# Altium footprint library DCT.PcbLib: 16 footprints
Each footprint in its own frame and in the unit in brackets; x right, y up, seen from the top. Pads: shape width x height; smd on the part's side, far side on the other; paste and mask are expansions set on the pad; w line width, h text height; cw(c..) or ccw(c..) is an arc to the next point about the centre after c.
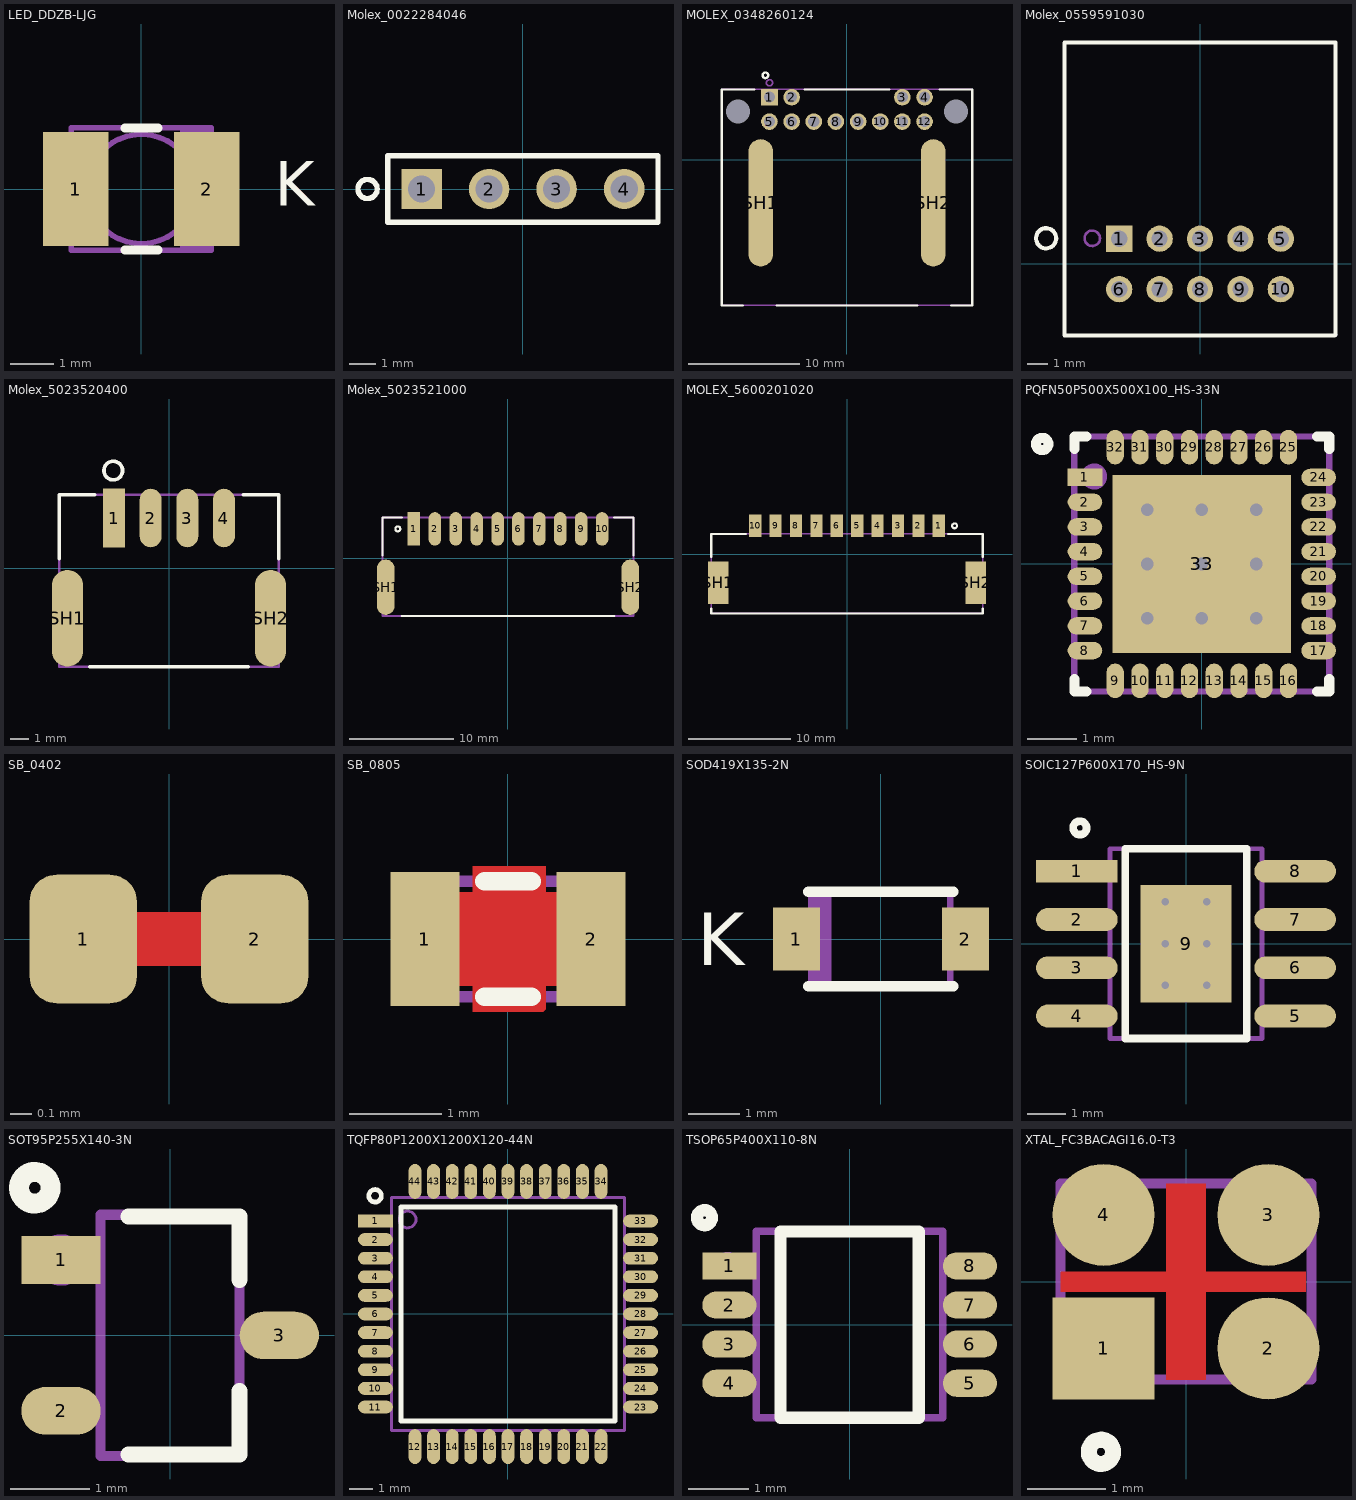
[diagram p0: the footprints below, top view; thin cyan lines are the x and y axes]

## LED_DDZB-LJG [mm]
height 2.05
pads (2):
  rect 1.5x2.6 smd: 1(-1.5,0) 2(1.5,0)
Top Overlay:
  lines w0.203: -0.381,-1.397 0.381,-1.397 ; -0.381,1.397 0.381,1.397
  text "K" at 3.048,-0.381 h1.02
Mechanical 1:
  text "'.Designator'" at 0,0 h1.52
Mechanical 15:
  circle w0.127: c0,0 r1.25
  rectangle: 0.889,-1.4 1.6,1.4
  lines w0.127: -1.6,-1.4 -1.6,1.4 1.6,1.4 1.6,-1.4 -1.6,-1.4
3D body: height 2, standoff 0, extent -1.24,-1.248 1.25,1.248
3D body: height 2.05, standoff 0, extent -1.6,-1.4 0,1.4
3D body: height 2.05, standoff 0, extent 0,-1.4 1.6,1.4

## Molex_0022284046 [mm] "CONN HEADER VERT 4POS 2.54MM"
height 8.38
pads (4):
  rect 1.52x1.52 hole 1.02: 1(-3.81,0)
  round 1.52 hole 1.02: 2(-1.27,0) 3(1.27,0) 4(3.81,0)
Top Overlay:
  circle w0.203: c-5.842,0 r0.359
  lines w0.203: -5.08,-1.245 5.08,-1.245 5.08,1.245 -5.08,1.245 -5.08,-1.245
Mechanical 1:
  text "'.Designator'" at 0,0 h1.52
Mechanical 15:
  circle w0.127: c-4.064,0.254 r0.359
  lines w0.127: -5.08,-1.245 -5.08,1.245 5.08,1.245 5.08,-1.245 -5.08,-1.245
3D body "022284046.stp": height 8.44, standoff -3.12, extent -5.08,-1.244 5.08,1.245

## MOLEX_0348260124 [mm] "CONN HEADER R/A 12POS 2MM"
height 12.17
pads (16):
  rect 1.5x1.5 hole 1: 1(-7,5.647)
  round 1.5 hole 1: 2(-5,5.647) 3(5,5.647) 4(7,5.647) 5(-7,3.447) 6(-5,3.447) 7(-3,3.447) 8(-1,3.447) 9(1,3.447) 10(3,3.447) 11(5,3.447) 12(7,3.447)
  round 0.102 hole 2.15 unplated: MH1(-9.85,4.347) MH2(9.85,4.347)
  oval 2.2x11.5 smd: SH1(-7.79,-3.896) SH2(7.79,-3.896)
Top Overlay:
  circle w0.203: c-7.366,7.62 r0.254
  lines w0.203: -9.398,-13.154 -11.315,-13.154 -11.315,6.346 -11.312,6.35 -8.382,6.35 ; -6.35,-13.154 6.35,-13.154 ; -3.81,6.346 3.81,6.346 ; 8.382,6.35 11.312,6.35 11.315,6.346 11.315,-13.154 9.398,-13.154
Mechanical 1:
  text "'.Designator'" at 0,0 h1.52
Mechanical 15:
  circle w0.127: c-7,6.947 r0.283
  lines w0.127: -11.315,-13.154 -11.315,6.346 11.315,6.346 11.315,-13.154 -11.315,-13.154
3D body "348260124.stp": height 11.84, standoff -4.05, extent -11.315,-13.154 11.315,6.346

## Molex_0559591030 [mm] "CONN HEADER R/A 10POS 2MM"
height 11.7
pads (10):
  rect 1.3x1.3 hole 0.8: 1(-4,1.25)
  round 1.3 hole 0.8: 2(-2,1.25) 3(0,1.25) 4(2,1.25) 5(4,1.25) 6(-4,-1.25) 7(-2,-1.25) 8(0,-1.25) 9(2,-1.25) 10(4,-1.25)
Top Overlay:
  circle w0.203: c-7.62,1.27 r0.5
  lines w0.203: -6.7,-3.528 -6.7,10.95 -6.689,10.961 6.711,10.961 6.711,-3.497 6.669,-3.539 -6.689,-3.539 -6.7,-3.528
Mechanical 1:
  text "'.Designator'" at 0,0 h1.52
Mechanical 15:
  circle w0.127: c-5.334,1.27 r0.381
  lines w0.127: -6.7,-3.539 -6.7,10.95 6.7,10.95 6.7,-3.508 6.731,-3.539 -6.689,-3.539
3D body "559591030.stp": height 11.65, standoff -3.25, extent -6.689,-3.539 6.711,10.961

## Molex_5023520400 [mm] "CONN HEADER SMD R/A 4POS 2MM"
height 6.4
pads (6):
  rect 1.2x3.2 smd: 1(-3,2.74)
  oval 1.2x3.2 smd: 2(-1,2.74) 3(1,2.74) 4(3,2.74)
  oval 1.7x5.3 smd: SH1(-5.55,-2.74) SH2(5.55,-2.74)
Top Overlay:
  circle w0.203: c-3.048,5.334 r0.508
  lines w0.203: -6,0.508 -6,4.014 -4.064,4.014 ; -4.318,-5.386 4.318,-5.386 ; 4.064,4.014 6,4.014 6,0.508
Mechanical 1:
  text "'.Designator'" at 0,0 h1.52
Mechanical 15:
  circle w0.127: c-3,2.74 r0.381
  lines w0.127: -6,-5.386 6,-5.386 6,4.014 -6,4.014 -6,-5.386
3D body "5023520400.stp": height 6.46, standoff 0.06, extent -6,-5.386 6,4.014

## Molex_5023521000 [mm] "CONN HEADER SMD R/A 10POS 2MM"
height 6.4
pads (12):
  rect 1.2x3.2 smd: 1(-9,2.79)
  oval 1.2x3.2 smd: 2(-7,2.79) 3(-5,2.79) 4(-3,2.79) 5(-1,2.79) 6(1,2.79) 7(3,2.79) 8(5,2.79) 9(7,2.79) 10(9,2.79)
  oval 1.7x5.3 smd: SH1(-11.7,-2.79) SH2(11.7,-2.79)
Top Overlay:
  circle w0.203: c-10.541,2.79 r0.239
  lines w0.203: -12,0.254 -12,3.865 -10.16,3.865 ; -10.16,-5.535 10.16,-5.535 ; 10.16,3.865 12,3.865 12,0.254
Mechanical 1:
  text "'.Designator'" at 0,0 h1.52
Mechanical 15:
  circle w0.127: c-9,2.79 r0.491
  lines w0.203: -12,-5.535 12,-5.535 12,3.865 -12,3.865 -12,-5.535
3D body "5023521000.stp": height 6.46, standoff 0.06, extent -12,-5.535 12,3.865

## MOLEX_5600201020 [mm] "CONN HEADER SMD 10POS 2MM"
height 9.3
pads (12):
  rect 1.2x2.2 smd: 1(9,2.79) 2(7,2.79) 3(5,2.79) 4(3,2.79) 5(1,2.79) 6(-1,2.79) 7(-3,2.79) 8(-5,2.79) 9(-7,2.79) 10(-9,2.79)
  rect 2x4.2 smd: SH1(-12.6,-2.79) SH2(12.6,-2.79)
Top Overlay:
  circle w0.203: c10.541,2.79 r0.239
  lines w0.203: -13.3,-5.334 -13.3,-5.79 13.3,-5.79 13.3,-5.334 ; -13.3,-0.254 -13.3,2.01 -9.906,2.01 ; 9.906,2.01 13.3,2.01 13.3,-0.254
Mechanical 1:
  text "'.Designator'" at 0,0 h1.52
Mechanical 15:
  circle w0.127: c9,2.79 r0.491
  lines w0.127: -13.3,-5.79 -13.3,2.01 13.3,2.01 13.3,-5.79 -13.3,-5.79
3D body "5600201020.stp": height 7.9, standoff -0.1, extent -13.3,-5.79 13.3,3.36

## PQFN50P500X500X100_HS-33N [mm] "PQFN, 32-Leads, Body 5.00x5.00mm, Pitch 0.50mm, Thermal Pad 3.60x3.60mm, IPC Medium Density"
height 1
pads (33):
  rect 0.7x0.35 smd mask+0.064: 1(-2.361,1.75)
  oval 0.7x0.35 smd mask+0.064: 2(-2.361,1.25) 3(-2.361,0.75) 4(-2.361,0.25) 5(-2.361,-0.25) 6(-2.361,-0.75) 7(-2.361,-1.25) 8(-2.361,-1.75) 17(2.361,-1.75) 18(2.361,-1.25) 19(2.361,-0.75) 20(2.361,-0.25) 21(2.361,0.25) 22(2.361,0.75) 23(2.361,1.25) 24(2.361,1.75)
  oval 0.35x0.7 smd mask+0.064: 9(-1.75,-2.361) 10(-1.25,-2.361) 11(-0.75,-2.361) 12(-0.25,-2.361) 13(0.25,-2.361) 14(0.75,-2.361) 15(1.25,-2.361) 16(1.75,-2.361) 25(1.75,2.361) 26(1.25,2.361) 27(0.75,2.361) 28(0.25,2.361) 29(-0.25,2.361) 30(-0.75,2.361) 31(-1.25,2.361) 32(-1.75,2.361)
  rect 3.6x3.6 smd mask+0.064: 33(0,0)
via -1.1,1.1 diameter 0.508 hole 0.254
via 0,1.1 diameter 0.508 hole 0.254
via 1.1,1.1 diameter 0.508 hole 0.254
via -1.1,0 diameter 0.508 hole 0.254
via 0,0 diameter 0.508 hole 0.254
via 1.1,0 diameter 0.508 hole 0.254
via -1.1,-1.1 diameter 0.508 hole 0.254
via 0,-1.1 diameter 0.508 hole 0.254
via 1.1,-1.1 diameter 0.508 hole 0.254
Top Overlay:
  circle w0.203: c-3.225,2.425 r0.125
  lines w0.203: -2.575,-2.327 -2.575,-2.575 -2.327,-2.575 ; -2.575,2.327 -2.575,2.575 -2.327,2.575 ; 2.327,-2.575 2.575,-2.575 2.575,-2.327 ; 2.327,2.575 2.575,2.575 2.575,2.327
Mechanical 1:
  text "'.Designator'" at 0,0 h2.03
Mechanical 15:
  circle w0.127: c-2.176,1.768 r0.2
  lines w0.127: -2.575,-2.575 -2.575,2.575 2.575,2.575 2.575,-2.575 -2.575,-2.575
3D body "PQFN50P500X500X100_HS-33N.step": height 1, standoff 0, extent -2.575,-2.575 2.575,2.575

## SB_0402 [mm]
pads (2):
  rrect50% 0.5x0.6 smd mask+0.076: 1(-0.4,0) 2(0.4,0)
Top Layer:
  lines w0.254: -0.4,0 0.4,0
Mechanical 1:
  text ".Designator" at 0,0 h1.02

## SB_0805 [mm]
height 0.6
pads (2):
  rect 0.75x1.45 smd mask+0.076: 1(-0.9,0) 2(0.9,0)
Top Layer:
  pour cut-out: -0.381,0.787 0.406,0.787 0.406,-0.762 0.381,-0.787 -0.381,-0.787
  lines w1.016: -0.62,0 0.62,0
Top Overlay:
  lines w0.203: -0.254,-0.625 0.254,-0.625 ; -0.254,0.625 0.254,0.625
Mechanical 1:
  text ".Designator" at 0,0 h1.02
Mechanical 15:
  lines w0.127: -1,-0.625 -1,0.625 1,0.625 1,-0.625 -1,-0.625

## SOD419X135-2N [mm] "SODFL, 2-Leads, Body 1.60x3.71mm, IPC Medium Density"
height 1.35
pads (2):
  rect 0.91x1.22 smd: 1(-1.635,0) 2(1.635,0)
Top Overlay:
  lines w0.203: -1.4,-0.915 1.4,-0.915 ; -1.4,0.915 1.4,0.915
  text "K" at -3.556,-0.508 h1.02
Mechanical 1:
  text ".Designator" at 0,0 h1.52
Mechanical 15:
  rectangle: -1.345,-0.9 -0.956,0.889
  lines w0.127: -1.345,-0.9 -1.345,0.9 1.345,0.9 1.345,-0.9 -1.345,-0.9
3D body "SODFL371X135-2N.step": height 1.35, standoff 0, extent -1.855,-0.9 1.855,0.9

## SOIC127P600X170_HS-9N [mm] "SOIC, 8-Leads, Body 4.90x3.90mm, Pitch 1.27mm, Thermal Pad 3.10x2.40mm, IPC Medium Density"
height 1.7
pads (9):
  rect 2.15x0.6 smd: 1(-2.875,1.905)
  oval 2.15x0.6 smd: 2(-2.875,0.635) 3(-2.875,-0.635) 4(-2.875,-1.905) 5(2.875,-1.905) 6(2.875,-0.635) 7(2.875,0.635) 8(2.875,1.905)
  rect 2.4x3.1 smd: 9(0,0)
via -0.55,1.1 diameter 0.5 hole 0.2
via 0.55,1.1 diameter 0.5 hole 0.2
via -0.55,0 diameter 0.5 hole 0.2
via 0.55,0 diameter 0.5 hole 0.2
via -0.55,-1.1 diameter 0.5 hole 0.2
via 0.55,-1.1 diameter 0.5 hole 0.2
Top Overlay:
  circle w0.203: c-2.794,3.048 r0.177
  lines w0.203: -1.6,-2.5 -1.6,2.5 1.6,2.5 1.6,-2.5 -1.6,-2.5
Mechanical 1:
  text "'.Designator'" at 0,0 h1.52
Mechanical 15:
  circle w0.127: c-2.875,1.905 r0.194
  lines w0.127: -2,-2.5 -2,2.5 2,2.5 2,-2.5 -2,-2.5
3D body "SOIC127P600X170_HS-9N.step": height 1.7, standoff 0, extent -3,-2.5 3,2.5

## SOT95P255X140-3N [mm] "SOT23, 3-Leads, Body 2.90x2.55mm, Pitch 0.95mm, IPC Medium Density"
height 1.4
pads (3):
  rect 1x0.6 smd: 1(-1.375,0.95)
  oval 1x0.6 smd: 2(-1.375,-0.95) 3(1.375,0)
Top Overlay:
  circle w0.25: c-1.705,1.86 r0.199
  lines w0.203: -0.525,-1.5 0.875,-1.5 0.875,-0.702 ; -0.525,1.5 0.875,1.5 0.875,0.702
Mechanical 1:
  text "'.Designator'" at 0,0.191 h1.02
Mechanical 15:
  circle w0.25: c-1.375,0.95 r0.199
  lines w0.127: -0.875,-1.52 0.875,-1.52 0.875,1.52 -0.875,1.52 -0.875,-1.52
3D body "SOT95P255X140-3N.step": height 1.4, standoff 0, extent -1.5,-1.52 1.5,1.52

## TQFP80P1200X1200X120-44N [mm] "TQFP, 44-Leads, Body 10.00x10.00mm, Pitch 0.80mm, IPC Medium Density"
height 1.2
pads (44):
  rect 1.5x0.55 smd mask+0.076: 1(-5.7,4)
  oval 1.5x0.55 smd mask+0.076: 2(-5.7,3.2) 3(-5.7,2.4) 4(-5.7,1.6) 5(-5.7,0.8) 6(-5.7,0) 7(-5.7,-0.8) 8(-5.7,-1.6) 9(-5.7,-2.4) 10(-5.7,-3.2) 11(-5.7,-4) 23(5.7,-4) 24(5.7,-3.2) 25(5.7,-2.4) 26(5.7,-1.6) 27(5.7,-0.8) 28(5.7,0) 29(5.7,0.8) 30(5.7,1.6) 31(5.7,2.4) 32(5.7,3.2) 33(5.7,4)
  oval 0.55x1.5 smd mask+0.076: 12(-4,-5.7) 13(-3.2,-5.7) 14(-2.4,-5.7) 15(-1.6,-5.7) 16(-0.8,-5.7) 17(0,-5.7) 18(0.8,-5.7) 19(1.6,-5.7) 20(2.4,-5.7) 21(3.2,-5.7) 22(4,-5.7) 34(4,5.7) 35(3.2,5.7) 36(2.4,5.7) 37(1.6,5.7) 38(0.8,5.7) 39(0,5.7) 40(-0.8,5.7) 41(-1.6,5.7) 42(-2.4,5.7) 43(-3.2,5.7) 44(-4,5.7)
Top Overlay:
  circle w0.203: c-5.715,5.08 r0.269
  lines w0.203: -4.6,-4.6 -4.6,4.6 4.6,4.6 4.6,-4.6 -4.6,-4.6
Mechanical 1:
  text "'.Designator'" at 0,0 h1.52
Mechanical 15:
  circle w0.127: c-4.318,4.064 r0.359
  lines w0.127: -5,-5 -5,5 5,5 5,-5 -5,-5
3D body "TQFP80P1200X1200X120-44N.step": height 1.2, standoff 0, extent -6,-6 6,6

## TSOP65P400X110-8N [mm] "TSOP, 8-Leads, Body 3.00x3.00mm, Pitch 0.65mm, IPC Medium Density"
height 1.1
pads (8):
  rect 0.9x0.45 smd mask+0.076: 1(-2,0.975)
  oval 0.9x0.45 smd mask+0.076: 2(-2,0.325) 3(-2,-0.325) 4(-2,-0.975) 5(2,-0.975) 6(2,-0.325) 7(2,0.325) 8(2,0.975)
Top Overlay:
  circle w0.203: c-2.413,1.778 r0.125
  lines w0.203: -1.15,-1.55 -1.15,1.55 1.15,1.55 1.15,-1.55 -1.15,-1.55
Mechanical 1:
  text "'.Designator'" at 0,0 h2.03
Mechanical 15:
  circle w0.127: c-2.032,1.016 r0.127
  lines w0.127: -1.55,-1.55 -1.55,1.55 1.55,1.55 1.55,-1.55 -1.55,-1.55
3D body "TSOP65P400X110-8N.step": height 1.1, standoff 0.01, extent -1.993,-1.55 1.993,1.55

## XTAL_FC3BACAGI16.0-T3 [mm] "CRYSTAL 16MHZ 12PF SMD"
height 0.8
pads (4):
  rect 1.3x1.3 smd: 1(-1.05,-0.85)
  round 1.3 smd: 2(1.05,-0.85) 3(1.05,0.85) 4(-1.05,0.85)
Top Layer:
  pour cut-out: -0.254,-1.25 0.254,-1.25 0.254,-0.127 1.524,-0.127 1.524,0.127 0.254,0.127 0.254,1.25 -0.254,1.25 -0.254,0.127 -1.6,0.127 -1.6,-0.127 -0.254,-0.127
Top Overlay:
  circle w0.203: c-1.085,-2.17 r0.155
Mechanical 1:
  text "'.Designator'" at 0,0 h1.52
Mechanical 15:
  circle w0.127: c-1.05,-0.85 r0.204
  lines w0.127: -1.6,-1.25 1.6,-1.25 1.6,1.25 -1.6,1.25 -1.6,-1.25
3D body: height 0.8, standoff 0, extent -1.6,-1.25 1.6,1.25